# Altium schematic symbol library Connector_clamp.SCHLIB: 1 symbol
Pins are listed as number, name and electrical type; pins without a type are passive.

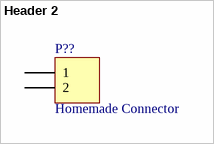
[diagram p0: symbol Header 2]

## Header 2
designator P??, comment Homemade Connector
Klema; LatestRevisionDate: 17-Jul-2002; LatestRevisionNote: Re-released for DXP Platform.; Publisher: Altium Limited
footprint Connector (Clamp?)
pins: 1, 2